# EAGLE library part ADL5801ACPZ-R7 (library Analog Devices)
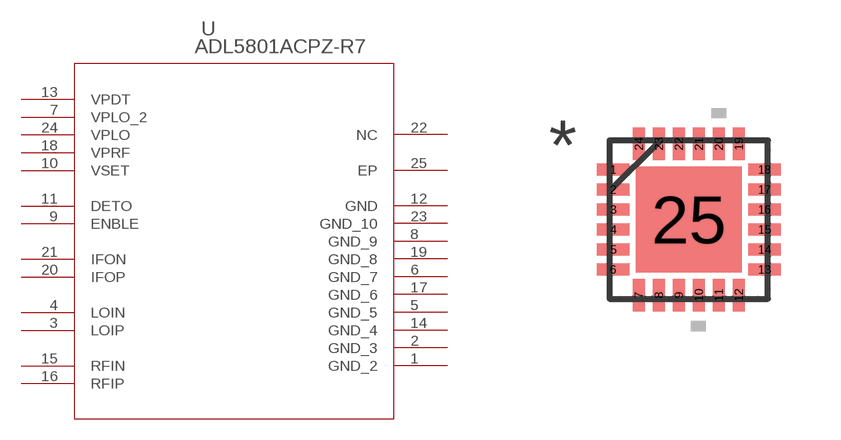
[diagram p10: symbol with the pads of CP_24_3; footprint CP_24_3]

Designator prefix U

## ADL5801ACPZ-R7  [CP_24_3]
1  GND_2  pas
2  GND_3  pas
3  LOIP  pas
4  LOIN  pas
5  GND_5  pas
6  GND_7  pas
7  VPLO_2  pas
8  GND_9  pas
9  ENBLE  pas
10  VSET  pas
11  DETO  pas
12  GND  pas
13  VPDT  pas
14  GND_4  pas
15  RFIN  pas
16  RFIP  pas
17  GND_6  pas
18  VPRF  pas
19  GND_8  pas
20  IFOP  pas
21  IFON  pas
22  NC  pas
23  GND_10  pas
24  VPLO  pas
25  EP  pas

## Footprint CP_24_3 (pad centres in mm)
smd 0.813 x 0.305: 1 -1.892,1.25; 2 -1.892,0.75; 3 -1.892,0.25; 4 -1.892,-0.25; 5 -1.892,-0.75; 6 -1.892,-1.25; 13 1.892,-1.25; 14 1.892,-0.75; 15 1.892,-0.25; 16 1.892,0.25; 17 1.892,0.75; 18 1.892,1.25
smd 0.305 x 0.813: 7 -1.25,-1.892; 8 -0.75,-1.892; 9 -0.25,-1.892; 10 0.25,-1.892; 11 0.75,-1.892; 12 1.25,-1.892; 19 1.25,1.892; 20 0.75,1.892; 21 0.25,1.892; 22 -0.25,1.892; 23 -0.75,1.892; 24 -1.25,1.892
smd 2.642 x 2.642: 25 0,0